# Altium footprint library TO-92(TO-226)-Transistor.PcbLib: 1 footprints
Each footprint in its own frame and in the unit in brackets; x right, y up, seen from the top. Pads: shape width x height; smd on the part's side, far side on the other; paste and mask are expansions set on the pad; w line width, h text height; cw(c..) or ccw(c..) is an arc to the next point about the centre after c.
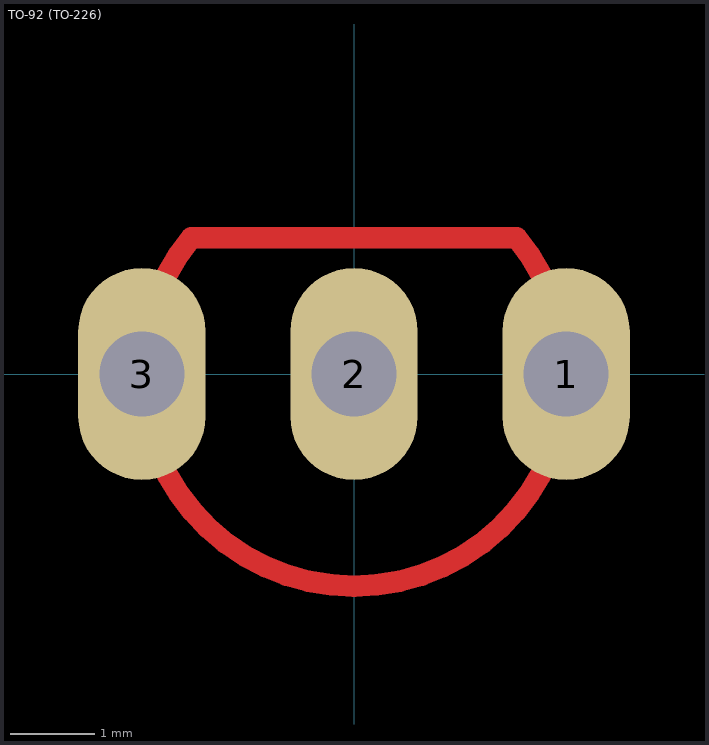
[diagram p0: the footprint, top view; thin cyan lines are the x and y axes]

## TO-92 (TO-226) [mm] "TO-92, TO-226, ransistor, MPSA56"
pads (3):
  oval 1.5x2.5 hole 1: 1(2.5,0) 2(0,0) 3(-2.5,0)
Top Layer:
  lines w0.254: -1.915,1.607 ccw(c0,0) 1.915,1.607 -1.915,1.607